# Altium schematic symbol library Tag-Connect.SchLib: 1 symbol
Pins are listed as number, name and electrical type; pins without a type are passive.

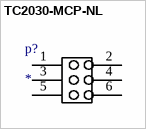
[diagram p0: symbol TC2030-MCP-NL]

## TC2030-MCP-NL
designator p?
TAG 6-pin programmer
footprint TAG programmer
pins: 1 "Header Pin", 2 "Header Pin", 3 "Header Pin", 4 "Header Pin", 5 "Header Pin", 6 "Header Pin"